# Altium footprint library Power.PcbLib: 2 footprints
Each footprint in its own frame and in the unit in brackets; x right, y up, seen from the top. Pads: shape width x height; smd on the part's side, far side on the other; paste and mask are expansions set on the pad; w line width, h text height; cw(c..) or ccw(c..) is an arc to the next point about the centre after c.
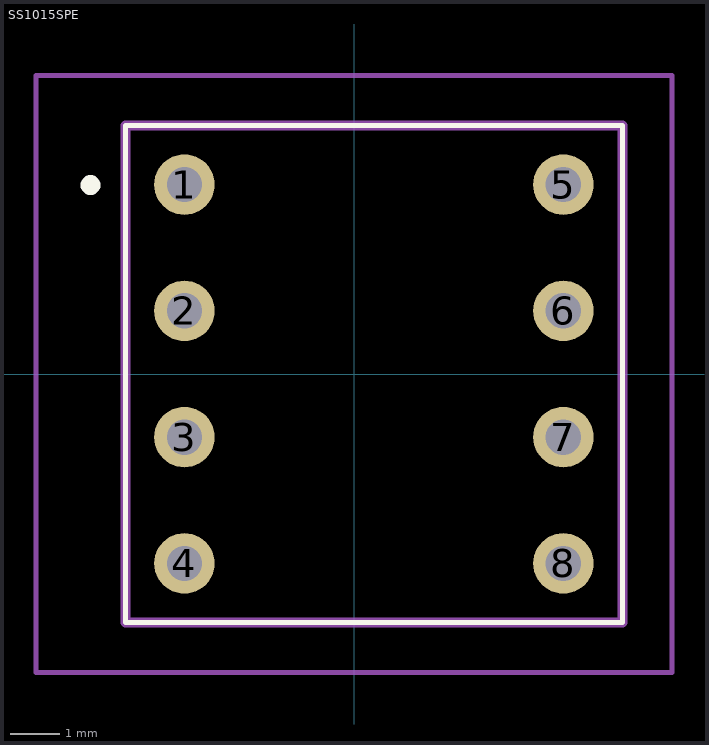
[diagram p0: the footprints below, top view; thin cyan lines are the x and y axes]

## PCBComponent_1 [mil]

## SS1015SPE [mm]
pads (8):
  round 1.217 hole 0.71: 1(-3.41,3.81) 2(-3.41,1.27) 3(-3.41,-1.27) 4(-3.41,-3.81) 5(4.21,3.81) 6(4.21,1.27) 7(4.21,-1.27) 8(4.21,-3.81)
Top Overlay:
  lines w0.1: -4.6,-5 5.4,-5 5.4,5 -4.6,5 -4.6,-5
  lines w0.2: -5.3,3.7 cw(c-5.3,3.8) -5.3,3.9 cw(c-5.3,3.8) -5.3,3.7
Top 3D Body:
  lines w0.2: -4.6,-5 5.4,-5 5.4,5 -4.6,5 -4.6,-5
Bottom 3D Body:
  lines w0.1: -6.4,-6 6.4,-6 6.4,6 -6.4,6 -6.4,-6
3D body "SS-10-15SPE.stp": height 7.11, standoff -4.38, extent -4.492,-5 5.508,5